# EAGLE library part TE505557-4 (library E14-P-099-R21.2(US_drills))
High power binding post for ring connector- 25A continous Cover and plastic coating TE5055557-4
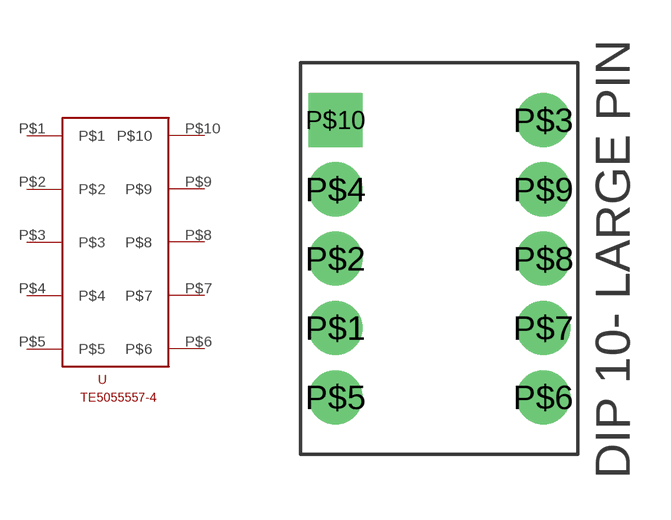
[diagram p3: symbol with the pads of DIP10; footprint DIP10]

Designator prefix -

## TE505557-4  [DIP10]
P$1  P$1
P$2  P$2
P$3  P$3
P$4  P$4
P$5  P$5
P$6  P$6
P$7  P$7
P$8  P$8
P$9  P$9
P$10  P$10

## Footprint DIP10 (pad centres in mm)
drill 1.321 pad 1.676: P$1 1.27,-9.716; P$2 1.27,-7.176; P$3 8.89,-2.095; P$4 1.27,-4.636; P$5 1.27,-12.255; P$6 8.89,-12.255; P$7 8.89,-9.716; P$8 8.89,-7.176; P$9 8.89,-4.636
drill 1.321 pad 1.778 square: P$10 1.27,-2.095